# Altium schematic symbol library Teeny.SchLib: 10 symbols
Pins are listed as number, name and electrical type; pins without a type are passive.

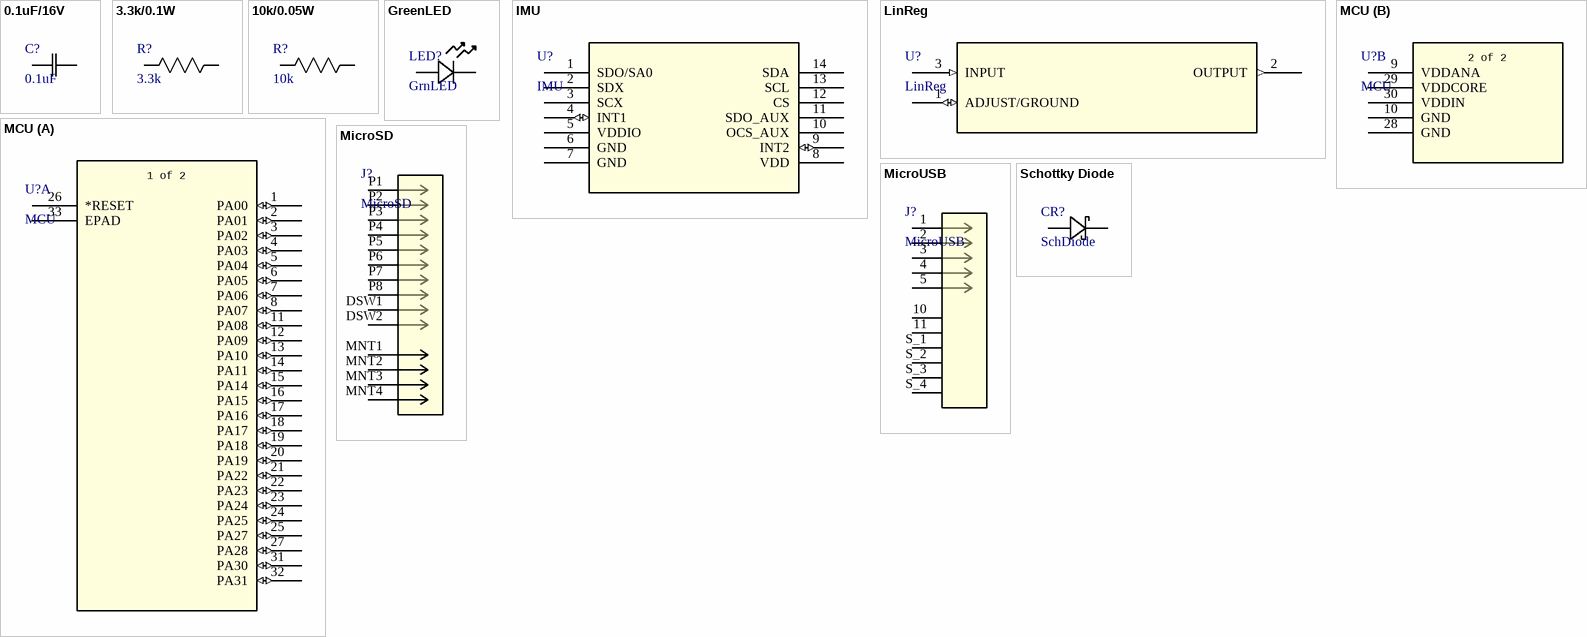
[diagram p0: symbols 0.1uF/16V to Schottky Diode]

## 0.1uF/16V
designator C?, comment 0.1uF
GRM155R71C104KA88D; Manufacturer_Name: Murata; Copyright: Copyright (C) 2026 Ultra Librarian. All rights reserved.; Manufacturer_Part_Number: GRM155R71C104KA88D
footprint 0.1uF/16V (GRM155R71C104KA88D)
pins: 1, 2

## 3.3k/0.1W
designator R?, comment 3.3k
RC0603FR-073K3L; Manufacturer_Name: Yageo; Copyright: Copyright (C) 2025 Ultra Librarian. All rights reserved.; Manufacturer_Part_Number: RC0603FR-073K3L
footprint 3.3k/0.1W (RC0603FR-073K3L)
pins: 1, 2

## 10k/0.05W
designator R?, comment 10k
RC0201FR-0710KL; Manufacturer_Name: Yageo; Copyright: Copyright (C) 2025 Ultra Librarian. All rights reserved.; Manufacturer_Part_Number: RC0201FR-0710KL
footprint 10k/0.05W (RC0201FR-0710KL)
pins: 1, 2

## GreenLED
designator LED?, comment GrnLED
LTST-C190KGKT; Manufacturer_Name: LITE-ON; Copyright: Copyright (C) 2025 Ultra Librarian. All rights reserved.; Manufacturer_Part_Number: LTST-C190KGKT
footprint GreenLED (LTST-C190KGKT)
pins: 1, 2

## IMU
designator U?
LSM6DSRXTR; Manufacturer_Name: STMicroelectronics; Copyright: Copyright (C) 2025 Ultra Librarian. All rights reserved.; Manufacturer_Part_Number: LSM6DSRXTR; RefDes: RefDes; Type: Type
footprint IMU (LSM6DSRXTR)
pins: 1 SDO/SA0, 2 SDX, 3 SCX, 4 INT1 (io), 5 VDDIO (power), 6 GND (power), 7 GND (power), 8 VDD (power), 9 INT2 (io), 10 OCS_AUX, 11 SDO_AUX, 12 CS, 13 SCL, 14 SDA

## LinReg
designator U?
NCP1117ST33T3G; Manufacturer_Name: onsemi; Copyright: Copyright (C) 2026 Ultra Librarian. All rights reserved.; Manufacturer_Part_Number: NCP1117ST33T3G; RefDes: RefDes; Type: Type
footprint LinReg (NCP1117ST33T3G)
pins: 1 ADJUST/GROUND (io), 2 OUTPUT (out), 3 INPUT (in)

## MCU
designator U?
ATSAMD21E18A-MUT; Manufacturer_Name: Microchip; Copyright: Copyright (C) 2026 Ultra Librarian. All rights reserved.; Manufacturer_Part_Number: ATSAMD21E18A-MUT; RefDes: RefDes; Type: Type
footprint MCU (ATSAMD21E18A-MUT)
part A pins: 1 PA00 (io), 2 PA01 (io), 3 PA02 (io), 4 PA03 (io), 5 PA04 (io), 6 PA05 (io), 7 PA06 (io), 8 PA07 (io), 11 PA08 (io), 12 PA09 (io), 13 PA10 (io), 14 PA11 (io), 15 PA14 (io), 16 PA15 (io), 17 PA16 (io), 18 PA17 (io), 19 PA18 (io), 20 PA19 (io), 21 PA22 (io), 22 PA23 (io), 23 PA24 (io), 24 PA25 (io), 25 PA27 (io), 26 *RESET, 27 PA28 (io), 31 PA30 (io), 32 PA31 (io), 33 EPAD
part B pins: 9 VDDANA (power), 10 GND (power), 28 GND (power), 29 VDDCORE (power), 30 VDDIN (power)
part A text: 1 of 2
part B text: 2 of 2

## MicroSD
designator J?
MEM2080-00-128-00-A; Manufacturer_Name: Global Connector Technology; Copyright: Copyright (C) 2025 Ultra Librarian. All rights reserved.; Manufacturer_Part_Number: MEM2080-00-128-00-A; RefDes: RefDes; Type: Type
footprint MicroSD (MEM2080-00-128-00-A)
pins: DSW1 LEVER, DSW2 SWITCH, MNT1 Mount, MNT2 Mount, MNT3 Mount, MNT4 Mount, P1 DAT2, P2 CD/DAT3, P3 CMD, P4 VDD, P5 CLK, P6 VSS, P7 DAT0, P8 DAT1

## MicroUSB
designator J?
10118194-0001LF; Manufacturer_Name: Amphenol ICC; Copyright: Copyright (C) 2026 Ultra Librarian. All rights reserved.; Manufacturer_Part_Number: 10118194-0001LF; RefDes: RefDes; Type: Type
footprint MicroUSB (10118194-0001LF)
pins: 1, 2, 3, 4, 5, 10, 11, S_1, S_2, S_3, S_4

## Schottky Diode
designator CR?, comment SchDiode
B5819W-TP; Manufacturer_Name: MCC; Copyright: Copyright (C) 2025 Ultra Librarian. All rights reserved.; Manufacturer_Part_Number: B5819W-TP
footprint SchDiode (B5819W-TP)
pins: 1, 2